# Altium schematic symbol library Components - 06.08.25 - 20.05.SchLib: 1 symbol
Pins are listed as number, name and electrical type; pins without a type are passive.

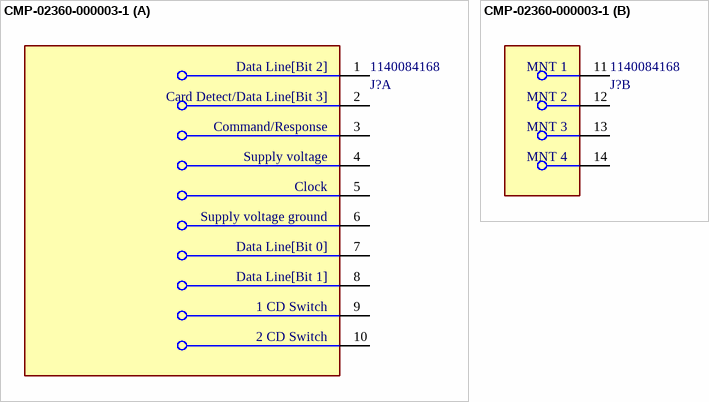
[diagram p0: symbol CMP-02360-000003-1]

## CMP-02360-000003-1
designator J?, comment 1140084168
CONN MICRO SD CARD PUSH-PULL R/A; Gender: Receptacle; Number of Contacts: 8; Connector Type: Connector; Pitch: 1.1mm; Lead Free: Lead Free; Housing Material: Polymer; Radiation Hardening: No; Mount: Surface Mount; Depth: 11.45mm; Number of Rows: 1; Height: 1.55mm; Contact Plating: Gold; Package Quantity: 7500; Packaging: Tape and Reel; Termination: SMD/SMT; Length: 15.6mm; Orientation: Right Angle; Flammability Rating: UL94 V-0; Contact Material: Copper Alloy
footprint FP-1140084168-0
part A pins: 1 Data Line[Bit 2], 2 Card Detect/Data Line[Bit 3], 3 Command/Response, 4 Supply voltage, 5 Clock, 6 Supply voltage ground, 7 Data Line[Bit 0], 8 Data Line[Bit 1], 9 1 CD Switch, 10 2 CD Switch
part B pins: 11 MNT 1, 12 MNT 2, 13 MNT 3, 14 MNT 4